# EAGLE library part DP_EDP_ADAPTER_AP6502A (library DP_eDP_Adapter_v2.0)
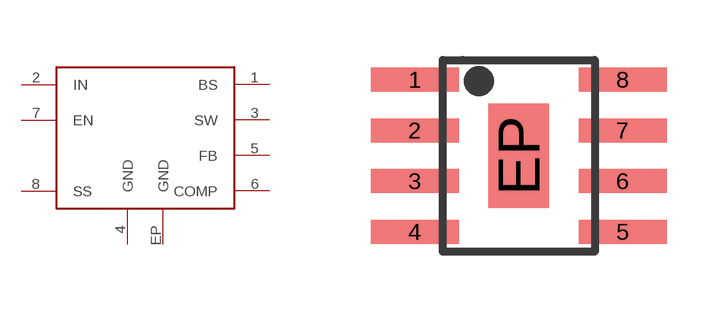
[diagram p0: symbol with the pads of DP_EDP_ADAPTER_SO8-EP; footprint DP_EDP_ADAPTER_SO8-EP]

Designator prefix -

## DP_EDP_ADAPTER_AP6502A  [DP_EDP_ADAPTER_SO8-EP]
1  BS
2  IN
3  SW
4  GND
5  FB
6  COMP
7  EN
8  SS
EP  GND

## Footprint DP_EDP_ADAPTER_SO8-EP (pad centres in mm)
smd 2.2 x 0.6: 1 -2.6,1.905; 2 -2.6,0.635; 3 -2.6,-0.635; 4 -2.6,-1.905; 5 2.6,-1.905; 6 2.6,-0.635; 7 2.6,0.635; 8 2.6,1.905
smd 1.505 x 2.613: EP 0,0